# Altium schematic symbol library EZR_LOW_COST_V01.Schlib: 1 symbol
Pins are listed as number, name and electrical type; pins without a type are passive.

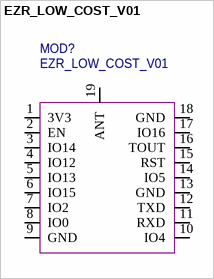
[diagram p0: symbol EZR_LOW_COST_V01]

## EZR_LOW_COST_V01
designator MOD?
pins: 1 3V3, 2 EN, 3 IO14, 4 IO12, 5 IO13, 6 IO15, 7 IO2, 8 IO0, 9 GND, 10 IO4, 11 RXD, 12 TXD, 13 GND, 14 IO5, 15 RST, 16 TOUT, 17 IO16, 18 GND, 19 ANT